# EAGLE library part LIS3DSH (library st_mems_2020)
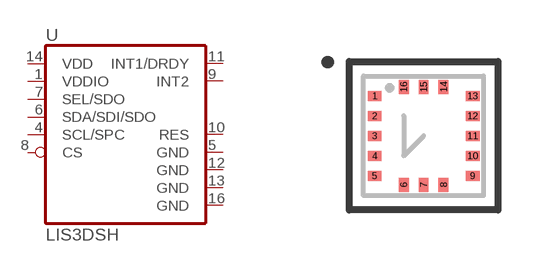
[diagram p0: symbol with the pads of LGA_16; footprint LGA_16]

Designator prefix -

## LIS3DSH  [LGA_16]
1  VDDIO  out
4  SCL/SPC  out
5  GND  out
6  SDA/SDI/SDO  out
7  SEL/SDO  out
8  CS  out
9  INT2  out
10  RES  out
11  INT1/DRDY  out
12  GND  out
13  GND  out
14  VDD  out
16  GND  out

## Footprint LGA_16 (pad centres in mm)
smd 0.35 x 0.25: 1 -1.225,1; 2 -1.225,0.5; 3 -1.225,0; 4 -1.225,-0.5; 5 -1.225,-1; 9 1.225,-1; 10 1.225,-0.5; 11 1.225,0; 12 1.225,0.5; 13 1.225,1
smd 0.25 x 0.35: 6 -0.5,-1.225; 7 0,-1.225; 8 0.5,-1.225; 14 0.5,1.225; 15 0,1.225; 16 -0.5,1.225